# Altium schematic symbol library SCH - POWER - SWITCHMODE - TI  TPS54550_PWP_16.SchLib: 1 symbol
Pins are listed as number, name and electrical type; pins without a type are passive.

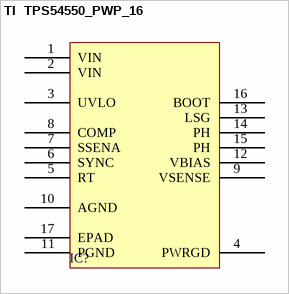
[diagram p0: symbol TI  TPS54550_PWP_16]

## TI  TPS54550_PWP_16
designator IC?  (value not drawn)
pins: 1 VIN, 2 VIN, 3 UVLO, 4 PWRGD, 5 RT, 6 SYNC, 7 SSENA, 8 COMP, 9 VSENSE, 10 AGND, 11 PGND, 12 VBIAS, 13 LSG, 14 PH, 15 PH, 16 BOOT, 17 EPAD